# EAGLE library part NRF24L01 (library GadgetFactory_v1)
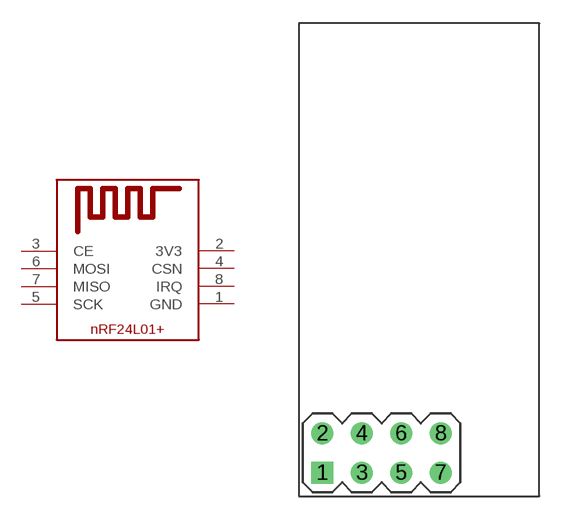
[diagram p44: symbol with the pads of NRF24L01; footprint NRF24L01]

Designator prefix M

## NRF24L01  [NRF24L01]
1  GND  pas
2  3V3  pwr
3  CE
4  CSN
5  SCK
6  MOSI
7  MISO
8  IRQ

## Footprint NRF24L01 (pad centres in mm)
drill 0.9 pad 1.422 square: 1 1.524,1.524
drill 0.9 pad 1.422: 2 1.524,4.064; 3 4.064,1.524; 4 4.064,4.064; 5 6.604,1.524; 6 6.604,4.064; 7 9.144,1.524; 8 9.144,4.064